# Altium footprint library sajat.PcbLib: 17 footprints (part 2 of 2)
Each footprint in its own frame and in the unit in brackets; x right, y up, seen from the top. Pads: shape width x height; smd on the part's side, far side on the other; paste and mask are expansions set on the pad; w line width, h text height; cw(c..) or ccw(c..) is an arc to the next point about the centre after c.
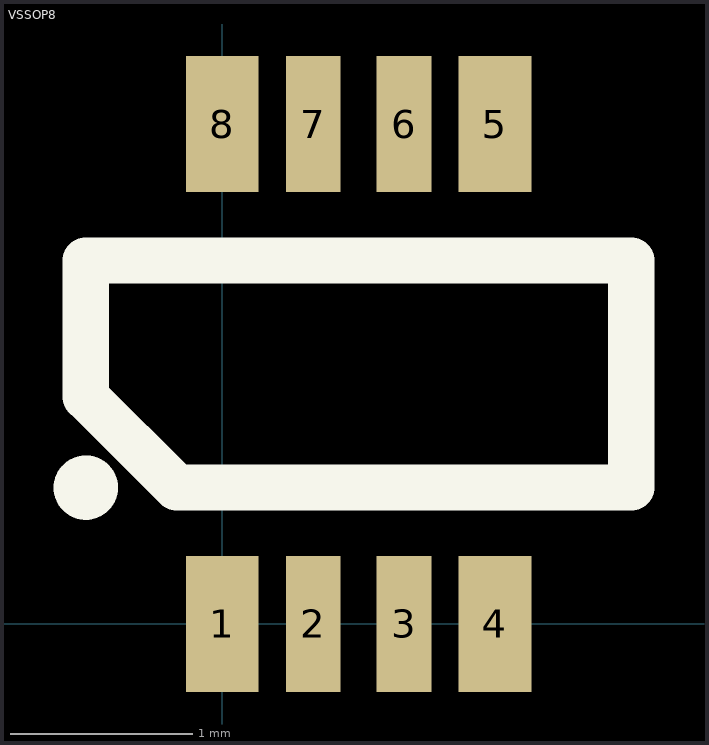
[diagram p1: the footprint, top view; thin cyan lines are the x and y axes]

## VSSOP8 [mm] "SOT765-1"
height 1
pads (8):
  rect 0.4x0.75 smd: 1(0,0) 4(1.5,0) 5(1.5,2.75) 8(0,2.75)
  rect 0.3x0.75 smd: 2(0.5,0) 3(1,0) 6(1,2.75) 7(0.5,2.75)
Top Overlay:
  circle w0.254: c-0.75,0.75 r0.05
  lines w0.254: -0.75,1.25 -0.75,2 2.25,2 2.25,0.75 -0.25,0.75 -0.75,1.25